# EAGLE library part ST890CDR (library Parts)
電源スイッチ 出力タイプ Pチャンネル 電圧 - 負荷 2.7 V～5.5 V 電圧 - 電源（Vcc/Vdd） 不要 電流 - 出力（最大） 1.2A Rds On（標準） 75ミリオーム フォールト保護 電流制限（調整可能）、過温度 動作温度 -40°C～85°C（TA）
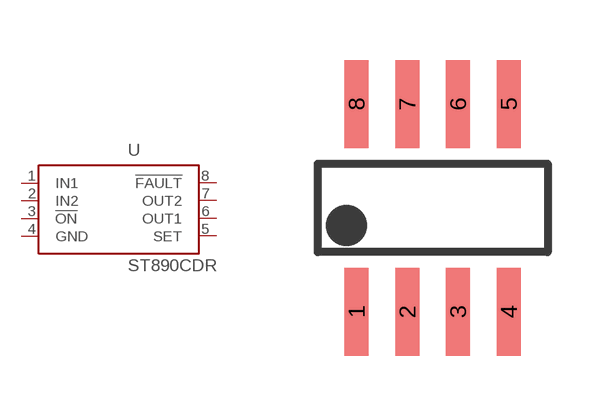
[diagram p17: symbol with the pads of SO8; footprint SO8]

Designator prefix U

## ST890CDR  [SO8]
1  IN1  pas
2  IN2  pas
3  !ON
4  GND  pas
5  SET
6  OUT1  pas
7  OUT2  pas
8  !FAULT

## Footprint SO8 (pad centres in mm)
8-Lead Small Outline IC (SO-8) Source: http://www.analog.com/UploadedFiles/Data_Sheets/703465986AD8611_2_0.pdf
smd 0.6 x 2.2: 1 -1.905,-2.6; 2 -0.635,-2.6; 3 0.635,-2.6; 4 1.905,-2.6; 5 1.905,2.6; 6 0.635,2.6; 7 -0.635,2.6; 8 -1.905,2.6